# EAGLE library part 9X_1K_BUSSED_R (library Next_Make_CPW_2015)
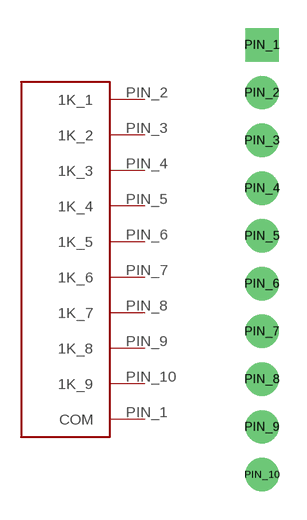
[diagram p2: symbol with the pads of SIP-10; footprint SIP-10]

Designator prefix -

## 9X_1K_BUSSED_R  [SIP-10]
PIN_1  COM
PIN_2  1K_1
PIN_3  1K_2
PIN_4  1K_3
PIN_5  1K_4
PIN_6  1K_5
PIN_7  1K_6
PIN_8  1K_7
PIN_9  1K_8
PIN_10  1K_9

## Footprint SIP-10 (pad centres in mm)
drill 0.762 pad 1.778 square: PIN_1 0,0
drill 0.762 pad 1.778: PIN_2 0,-2.54; PIN_3 0,-5.08; PIN_4 0,-7.62; PIN_5 0,-10.16; PIN_6 0,-12.7; PIN_7 0,-15.24; PIN_8 0,-17.78; PIN_9 0,-20.32; PIN_10 0,-22.86